# Altium integrated library UF4007.IntLib: 1 symbol
Pins are listed as number, name and electrical type; pins without a type are passive.

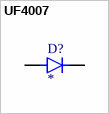
[diagram p0: symbol UF4007]

## UF4007
designator D?
UF4007 Series 1 A 1000 V 75 ns Through Hole Fast Rectifier - DO-41; MF: Fairchild Semiconductor; MP: UF4007.; SnapEDA_Link: https://www.snapeda.com/parts/UF4007./Onsemi/view-part/?ref=snap; Package: DO-41 Fairchild Semiconductor; Value: *; Check_prices: https://www.snapeda.com/parts/UF4007./Onsemi/view-part/?ref=eda
footprint DIOAD1036W78L470D235
pins: A, C K